# Altium schematic symbol library SCH - MISC - CDCLVC1104PWR.SCHLIB: 1 symbol
Pins are listed as number, name and electrical type; pins without a type are passive.

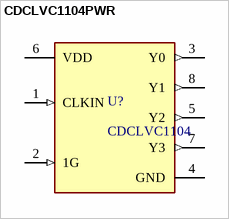
[diagram p0: symbol CDCLVC1104PWR]

## CDCLVC1104PWR
designator U?, comment CDCLVC1104
Clock Fanout Buffer 4-OUT 8-Pin TSSOP T/R
pins: 1 CLKIN (in), 2 1G (in), 3 Y0 (out), 4 GND (power), 5 Y2 (out), 6 VDD (power), 7 Y3 (out), 8 Y1 (out)